# EAGLE library part 690357100872 (library WR-MM)
WR-MM Male Connector w/o Latch & w. Polarization Material Properties Insulator Material PBT Insulator Flammability Rating UL94 V-0 Insulator Color Red Contact Material Phosphor Bronze Contact Plating Matte Tin over Nickel Contact Type Stamped Packaging Properties cULus Approval E323964 Packaging Tube General Information Operating Temperature -40 °C up to +105 °C Pitch 2.54 mm Gender Male Electrical Properties Working Voltage 250 V (AC) Withstanding Voltage 500 V (AC) Contact Resistance 10 mΩ RISO 1000 MΩ <https://www.we-online.com/components/media/o33157v209%2069035710xx72_Multi-parts.jpg> Details see: www.we-online.com/en/components/products/MM_1_27_MALE_CONNECTOR_W_O_LATCH_AND_WITH_POLARIZATION_69035710XX72 <www.we-online.com/catalog/MM_1_27_MALE_CONNECTOR_W_O_LATCH_AND_WITH_POLARIZATION_69035710XX72/?utm_source=eagle_model&utm_medium=description_link&utm_campaign=eisos_eagle> Updated by Ella 2025-02-28 2025 (C) Würth Elektronik
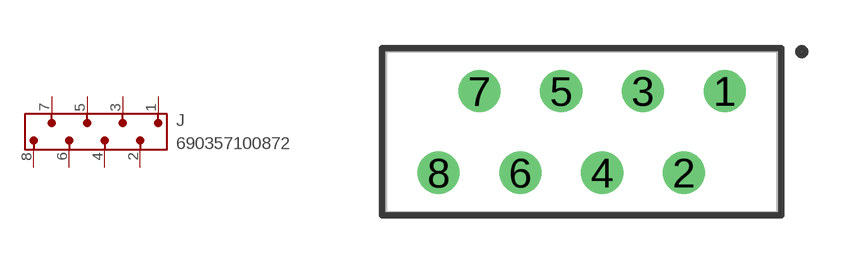
[diagram p66: symbol with the pads of 690357100872; footprint 690357100872]

Designator prefix J

## 690357100872 (DATASHEET-URL: https://www.we-online.com/redexpert/spec/690357100872?ae; GENDER: Male; IR: 1.5A; PACKAGING: Tube; PART-NUMBER: 690357100872; PINS: 8; PITCH: 2.54; TYPE: Straight; VALUE: 690357100872)  [690357100872]
1  1  pas
2  2  pas
3  3  pas
4  4  pas
5  5  pas
6  6  pas
7  7  pas
8  8  pas

## Footprint 690357100872 (pad centres in mm)
WR-MM Male Connector w/o Latch & w. Polarization, 8 Pins
drill 0.8: 1 4.445,1.27; 2 3.175,-1.27; 3 1.905,1.27; 4 0.635,-1.27; 5 -0.635,1.27; 6 -1.905,-1.27; 7 -3.175,1.27; 8 -4.445,-1.27